# Altium footprint library ROCKER_SWITCH_TYPE1.PcbLib: 1 footprints
Each footprint in its own frame and in the unit in brackets; x right, y up, seen from the top. Pads: shape width x height; smd on the part's side, far side on the other; paste and mask are expansions set on the pad; w line width, h text height; cw(c..) or ccw(c..) is an arc to the next point about the centre after c.
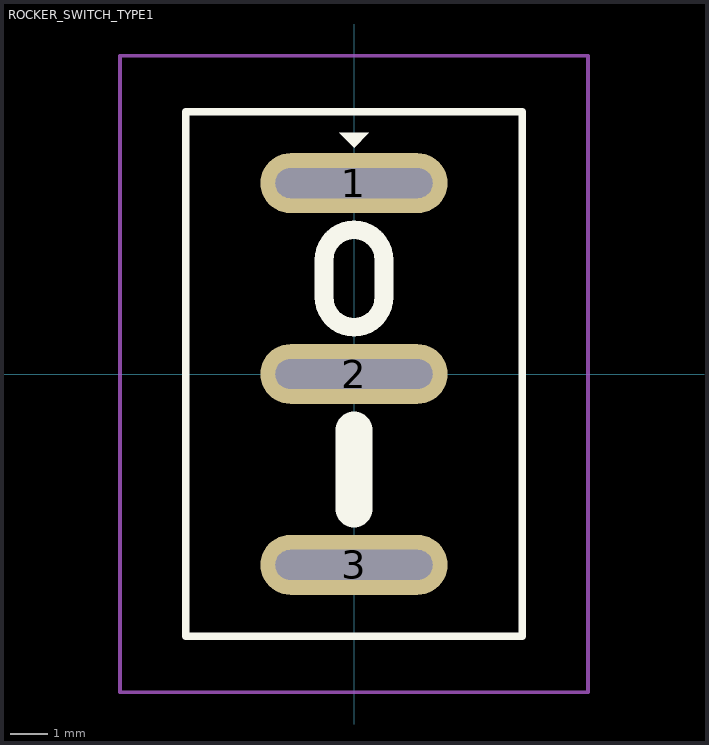
[diagram p0: the footprint, top view; thin cyan lines are the x and y axes]

## ROCKER_SWITCH_TYPE1 [mm]
pads (3):
  oval 5x1.6 hole 0.8 slot 4.2 at 0 deg: 1(0,5.1) 2(0,0) 3(0,-5.1)
Top Overlay:
  region: -0.4,6.45 0.4,6.45 0,6.05
  lines w0.2: -4.5,-7 -4.5,7 4.5,7 4.5,-7 -4.5,-7
  lines w0.5: -0.8,2.05 ccw(c0,2.05) 0,1.25 ccw(c0,2.05) 0.8,2.05 0.8,3.05 ccw(c0,3.05) 0,3.85 ccw(c0,3.05) -0.8,3.05 -0.8,2.05
  lines w1: 0,-3.6 0,-1.5
Top Courtyard:
  lines w0.1: -6.25,-8.5 -5.25,-8.5 6.25,-8.5 6.25,8.5 -6.25,8.5 -6.25,-8.5
3D body "User Library-KCD11-A-101O11RB.step": height 13.5, standoff -5.6, extent -5.25,-7.5 5.25,7.5